# Altium footprint library Transformers.PcbLib: 13 footprints
Each footprint in its own frame and in the unit in brackets; x right, y up, seen from the top. Pads: shape width x height; smd on the part's side, far side on the other; paste and mask are expansions set on the pad; w line width, h text height; cw(c..) or ccw(c..) is an arc to the next point about the centre after c.
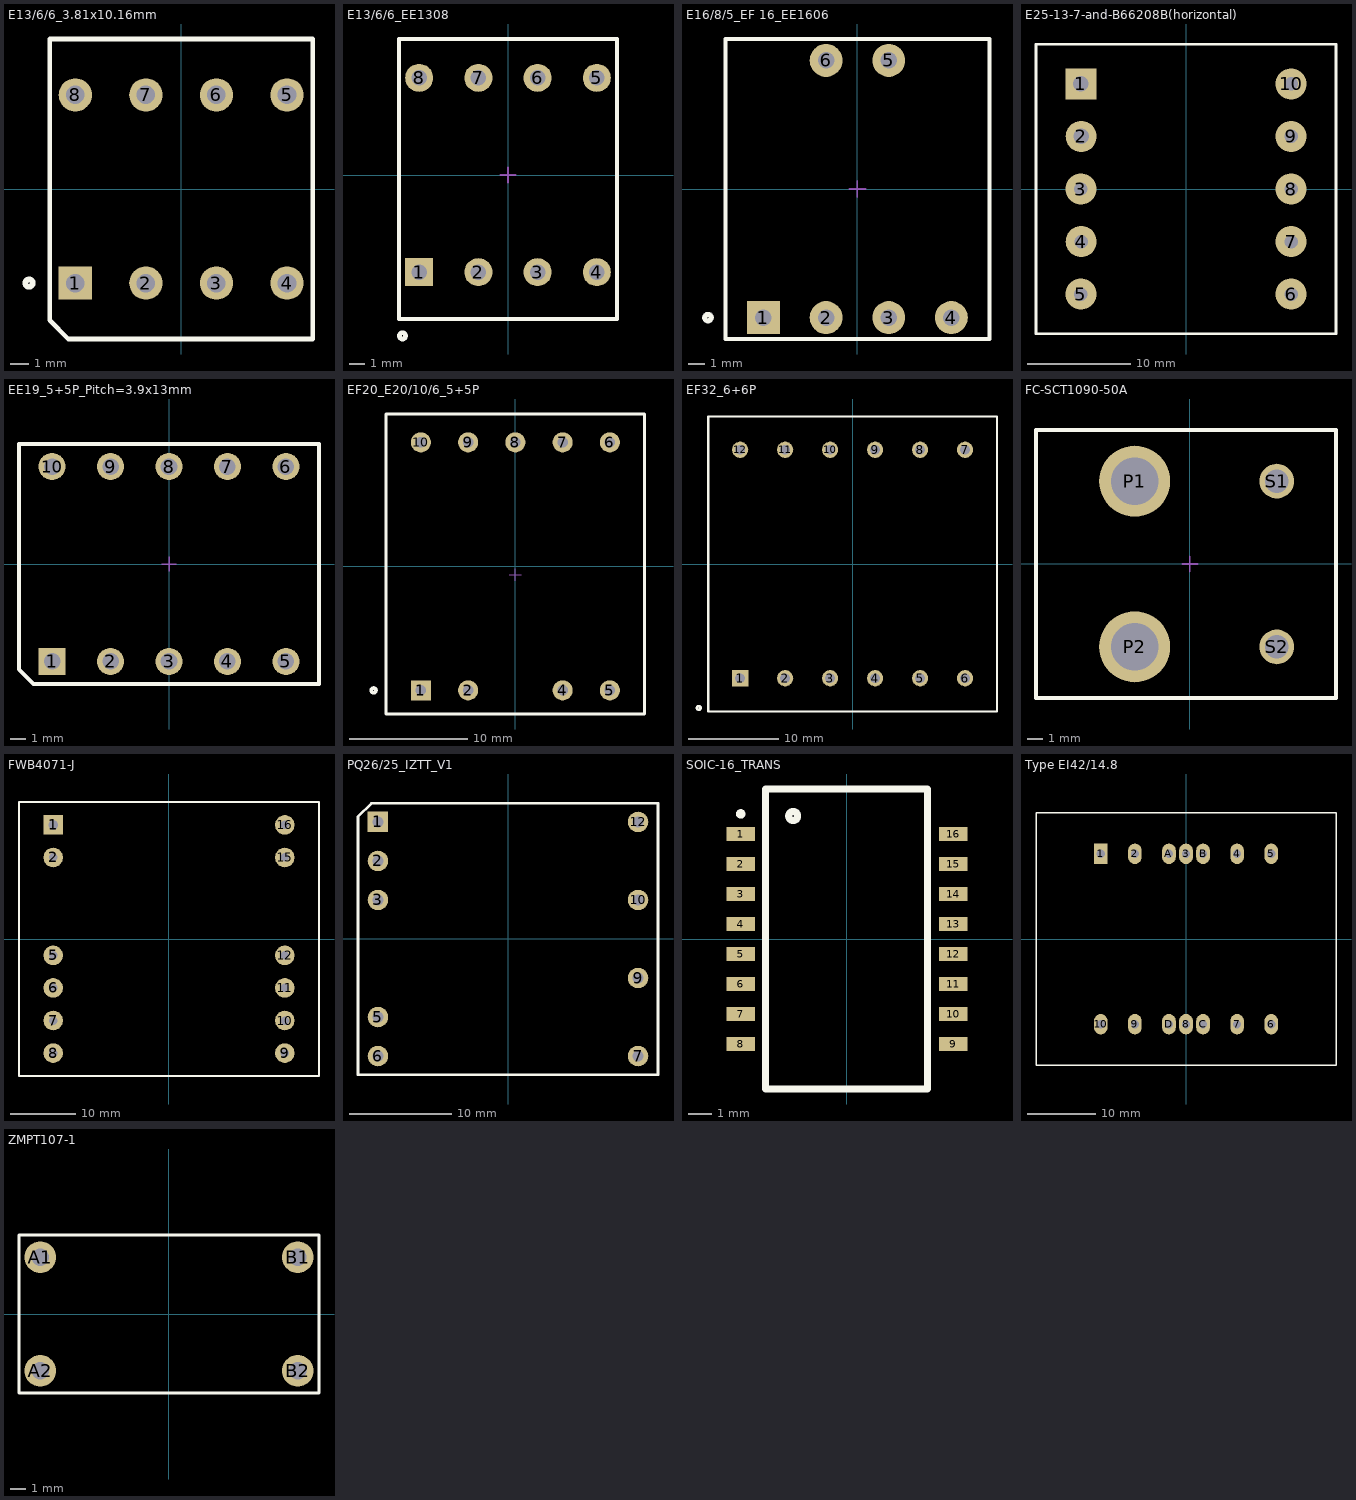
[diagram p0: the footprints below, top view; thin cyan lines are the x and y axes]

## E13/6/6_3.81x10.16mm [mm] "Трансформатор для драйвера AC-DC 5V, Coil former Horizontal = B66202B1108T001"
height 10.4
pads (8):
  rect 1.8x1.8 hole 1: 1(-5.715,-5.08)
  round 1.8 hole 1: 2(-1.905,-5.08) 3(1.905,-5.08) 4(5.715,-5.08) 5(5.715,5.08) 6(1.905,5.08) 7(-1.905,5.08) 8(-5.715,5.08)
Top Overlay:
  circle w0.3: c-8.215,-5.08 r0.2
  lines w0.25: -7.1,-7.095 -7.1,8.1 7.1,8.1 7.1,-8.1 -6.095,-8.1 -7.1,-7.095
3D body "Transformer E13x7x4.STEP": height 12.1, standoff -1.9, extent -7.1,-8.1 7.1,8.1

## E13/6/6_EE1308 [mm]
pads (8):
  rect 1.8x1.8 hole 1: 1(-5.715,-6.25)
  round 1.8 hole 1: 2(-1.905,-6.25) 3(1.905,-6.25) 4(5.715,-6.25) 5(5.715,6.25) 6(1.905,6.25) 7(-1.905,6.25) 8(-5.715,6.25)
Top Overlay:
  circle w0.3: c-6.79,-10.348 r0.2
  lines w0.25: -7,-9.27 -7,-1.65 -7,8.75 7,8.75 7,-9.27 -7,-9.27
Mechanical 15:
  lines w0.1: -0.5,0 0.5,0 ; 0,-0.5 0,0.5
3D body: height 0, standoff -2.5, extent 5.415,-6.55 6.015,-5.95
3D body: height 0, standoff -2.5, extent 1.605,-6.55 2.205,-5.95
3D body: height 0, standoff -2.5, extent -2.205,-6.55 -1.605,-5.95
3D body: height 0, standoff -2.5, extent -6.015,-6.55 -5.415,-5.95
3D body: height 0, standoff -2.5, extent 5.415,5.95 6.015,6.55
3D body: height 0, standoff -2.5, extent 1.605,5.95 2.205,6.55
3D body: height 0, standoff -2.5, extent -2.205,5.95 -1.605,6.55
3D body: height 0, standoff -2.5, extent -6.015,5.95 -5.415,6.55
3D body: height 12.5, standoff 0, extent -7.015,-7.25 6.985,5.75
3D body: height 15, standoff 0, extent -4.78,-4.5 4.72,3
3D body: height 15, standoff 0, extent -4.78,3 4.72,3.75
3D body: height 15, standoff 0, extent -4.78,-5.25 4.72,-4.5
3D body: height 6, standoff 0, extent -7,-9.27 7,8.75

## E16/8/5_EF 16_EE1606 [mm] "Трансформатор для драйвера AC-DC 5V, Coil former Horizontal"
height 11.7
pads (6):
  rect 2x2 hole 1: 1(-5.7,-7.8)
  round 2 hole 1: 2(-1.9,-7.8) 3(1.9,-7.8) 4(5.7,-7.8) 5(1.9,7.8) 6(-1.9,7.8)
Top Overlay:
  circle w0.3: c-9.066,-7.8 r0.2
  lines w0.25: -7.998,-9.1 8.002,-9.1 8.002,9.1 -7.998,9.1 -7.998,-9.1
Mechanical 15:
  lines w0.1: -0.5,0 0.5,0 ; 0,-0.5 0,0.5
3D body: height 12, standoff 0, extent -5,-5.75 5,-5
3D body: height 12, standoff 0, extent -5,5 5,5.75
3D body: height 0, standoff -2.5, extent 5.4,-8.1 6,-7.5
3D body: height 0, standoff -2.5, extent 1.6,-8.1 2.2,-7.5
3D body: height 0, standoff -2.5, extent -2.2,-8.1 -1.6,-7.5
3D body: height 0, standoff -2.5, extent -6,-8.1 -5.4,-7.5
3D body: height 0, standoff -2.5, extent 1.6,7.5 2.2,8.1
3D body: height 0, standoff -2.5, extent -2.2,7.5 -1.6,8.1
3D body: height 5, standoff 0, extent -7.998,-9.1 8.002,9.1
3D body: height 13, standoff 0, extent -5,-5 5,5
3D body: height 10, standoff 0, extent -7.998,-9.1 8.002,7.1

## E25-13-7-and-B66208B(horizontal) [mm] "Трансформатор для драйвера 18Вт (ГЗ Пульсар)"
height 34
pads (10):
  rect 3x3 hole 1.5: 1(-10.16,10.16)
  round 3 hole 1.5: 2(-10.13,5.08)
  round 3 hole 1.3: 3(-10.16,0) 4(-10.13,-5.08) 5(-10.16,-10.16) 6(10.16,-10.16) 7(10.16,-5.08) 8(10.16,0) 9(10.16,5.08) 10(10.16,10.16)
Top Overlay:
  lines w0.254: -14.5,-14 -14.5,14 14.5,14 14.5,-14 -14.5,-14
3D body "E25-13-7-and-B66208B(horizontal).STEP": height 20.5, standoff -3.5, extent -14,-13.75 14,13.75

## EE19_5+5P_Pitch=3.9x13mm [mm]
height 20.6
pads (10):
  rect 1.8x1.8 hole 1.1: 1(-7.8,-6.5)
  round 1.8 hole 1.1: 2(-3.9,-6.5) 3(0,-6.5) 4(3.9,-6.5) 5(7.8,-6.5) 6(7.8,6.5) 7(3.9,6.5) 8(0,6.5) 9(-3.9,6.5) 10(-7.8,6.5)
Top Overlay:
  lines w0.25: -10,-7.025 -10,8 10,8 10,-8 -9.025,-8 -10,-7.025
Mechanical 15:
  lines w0.1: -0.5,0 0.5,0 ; 0,-0.5 0,0.5
3D body: height 3, standoff -3, extent -0.347,-6.849 0.35,-6.151
3D body "EE19_EI-1912_without_pins_1.stp": height 22.4, standoff 0, extent -10,-8 10,8
3D body: height 3, standoff -3, extent -8.147,-6.849 -7.45,-6.151
3D body: height 3, standoff -3, extent -4.247,-6.849 -3.55,-6.151
3D body: height 3, standoff -3, extent 3.553,-6.849 4.25,-6.151
3D body: height 3, standoff -3, extent 7.453,-6.849 8.15,-6.151
3D body: height 3, standoff -3, extent 7.453,6.151 8.15,6.849
3D body: height 3, standoff -3, extent 3.553,6.151 4.25,6.849
3D body: height 3, standoff -3, extent -0.347,6.151 0.35,6.849
3D body: height 3, standoff -3, extent -4.247,6.151 -3.55,6.849
3D body: height 3, standoff -3, extent -8.147,6.151 -7.45,6.849

## EF20_E20/10/6_5+5P [mm]
pads (9):
  rect 1.7x1.7 hole 0.9: 1(-8,-10.5)
  round 1.7 hole 0.9: 2(-4,-10.5) 4(4,-10.5) 5(8,-10.5) 6(8,10.5) 7(4,10.5) 8(0,10.5) 9(-4,10.5) 10(-8,10.5)
Top Overlay:
  circle w0.3: c-12,-10.5 r0.2
  lines w0.25: -10.95,-12.5 -10.95,12.9 10.95,12.9 10.95,-12.5 -10.95,-12.5
Mechanical 15:
  lines w0.1: -0.5,-0.7 0.5,-0.7 ; 0,-1.2 0,-0.2
3D body: height 16.8, standoff 0, extent -6.95,2.8 6.95,3.6
3D body: height 16.8, standoff 0, extent -6.95,-10.2 6.95,-9.4
3D body: height 17, standoff 1, extent -6,-9.4 6,2.8
3D body: height 12.7, standoff 6.8, extent -10,-13.5 10,6.9
3D body: height 6.8, standoff 0, extent -10.95,-12.5 10.95,12.9
3D body: height 0, standoff -2.5, extent -8.298,-10.799 -7.7,-10.201
3D body: height 0, standoff -2.5, extent -4.298,-10.799 -3.7,-10.201
3D body: height 0, standoff -2.5, extent 3.702,-10.799 4.3,-10.201
3D body: height 0, standoff -2.5, extent 7.702,-10.799 8.3,-10.201
3D body: height 0, standoff -2.5, extent 7.702,10.201 8.3,10.799
3D body: height 0, standoff -2.5, extent 3.702,10.201 4.3,10.799
3D body: height 0, standoff -2.5, extent -0.298,10.201 0.3,10.799
3D body: height 0, standoff -2.5, extent -4.298,10.201 -3.7,10.799
3D body: height 0, standoff -2.5, extent -8.298,10.201 -7.7,10.799

## EF32_6+6P [mm]
pads (12):
  rect 1.8x1.8 hole 1.1: 1(-12.5,-12.7)
  round 1.8 hole 1.1: 2(-7.5,-12.7) 3(-2.5,-12.7) 4(2.5,-12.7) 5(7.5,-12.7) 6(12.5,-12.7) 7(12.5,12.7) 8(7.5,12.7) 9(2.5,12.7) 10(-2.5,12.7) 11(-7.5,12.7) 12(-12.5,12.7)
Top Overlay:
  circle w0.3: c-17.1,-16 r0.2
  lines w0.25: -16.05,-16.4 -16.05,16.4 16.05,16.4 16.05,-16.4 -16.05,-16.4
3D body: height 23.4, standoff 0, extent -11.3,-11.35 11.2,-10.2
3D body: height 23.4, standoff 0, extent -11.2,10.2 11.3,11.35
3D body: height 0, standoff -3, extent 12.102,-13.099 12.899,-12.301
3D body: height 0, standoff -3, extent 12.102,12.301 12.899,13.099
3D body: height 0, standoff -3, extent 7.102,12.301 7.899,13.099
3D body: height 0, standoff -3, extent 12.102,12.301 12.899,13.099
3D body: height 22.4, standoff 1, extent -10.2,-10.2 10.2,10.2
3D body: height 17, standoff 7.5, extent -16,-16.4 16,16.4
3D body: height 0, standoff -3, extent -12.898,-13.099 -12.101,-12.301
3D body: height 0, standoff -3, extent -7.898,-13.099 -7.101,-12.301
3D body: height 0, standoff -3, extent -2.898,-13.099 -2.101,-12.301
3D body: height 0, standoff -3, extent 2.102,-13.099 2.899,-12.301
3D body: height 0, standoff -3, extent 7.102,-13.099 7.899,-12.301
3D body: height 0, standoff -3, extent -12.898,12.301 -12.101,13.099
3D body: height 0, standoff -3, extent 7.102,12.301 7.899,13.099
3D body: height 0, standoff -3, extent -7.898,12.301 -7.101,13.099
3D body: height 0, standoff -3, extent -2.898,12.301 -2.101,13.099
3D body: height 0, standoff -3, extent 2.102,12.301 2.899,13.099
3D body: height 7.5, standoff 0, extent -16.05,10.2 16.05,14.6
3D body: height 7.5, standoff 0, extent -16.05,-14.6 16.05,-10.2

## FC-SCT1090-50A [mm]
height 23
pads (4):
  round 4.5 hole 3: P1(-3.5,5.25) P2(-3.5,-5.25)
  round 2.2 hole 1.5: S1(5.5,5.25) S2(5.5,-5.25)
Top Overlay:
  lines w0.25: -9.75,-8.5 9.25,-8.5 9.25,8.5 -9.75,8.5 -9.75,-8.5
Mechanical 15:
  lines w0.1: -0.5,0 0.5,0 ; 0,-0.5 0,0.5
3D body "Designator24.stp": height 22, standoff -3, extent -9.75,-8.5 8.75,8.5

## FWB4071-J [mm] "Трансформатор для драйвера 75Вт"
height 34
pads (12):
  rect 3x3 hole 1.5: 1(-17.75,17.5)
  round 3 hole 1.3: 2(-17.75,12.5) 5(-17.75,-2.5) 6(-17.75,-7.5) 7(-17.75,-12.5) 8(-17.75,-17.5) 9(17.75,-17.5) 10(17.75,-12.5) 11(17.75,-7.5) 12(17.75,-2.5) 15(17.75,12.5) 16(17.75,17.5)
Top Overlay:
  lines w0.254: -23,-21 -23,21 23,21 23,-21 -23,-21
3D body "FWPTER40H421K.STEP": height 32.94, standoff -3.5, extent -23.025,-21.002 22.975,21.003

## PQ26/25_IZTT_V1 [mm] "Transformers 88...264V - 12/24V 72W"
height 29
pads (9):
  rect 2x2 hole 1.1: 1(-12.7,11.43)
  round 2 hole 1.1: 2(-12.7,7.62) 3(-12.7,3.81) 5(-12.7,-7.62) 6(-12.7,-11.43) 7(12.7,-11.43) 9(12.7,-3.81) 10(12.7,3.81) 12(12.7,11.43)
Top Overlay:
  lines w0.254: -14.65,-13.25 -14.65,11.95 -13.35,13.25 14.65,13.25 14.65,-13.25 -14.65,-13.25
3D body "User Library-TRANS PQ2625_IZTT_V1.stp": height 29, standoff -3.8, extent -14.06,-13.5 14.06,13.5

## SOIC-16_TRANS [mm]
pads (16):
  rect 1.2x0.6 smd: 1(-4.5,4.445) 2(-4.5,3.175) 3(-4.5,1.905) 4(-4.5,0.635) 5(-4.5,-0.635) 6(-4.5,-1.905) 7(-4.5,-3.175) 8(-4.5,-4.445) 9(4.5,-4.445) 10(4.5,-3.175) 11(4.5,-1.905) 12(4.5,-0.635) 13(4.5,0.635) 14(4.5,1.905) 15(4.5,3.175) 16(4.5,4.445)
Top Overlay:
  circle w0.3: c-2.277,5.207 r0.191
  circle w0.2: c-4.5,5.295 r0.1
  lines w0.3: -3.45,-6.35 -3.45,6.35 3.4,6.35 3.4,-6.35 -3.45,-6.35
3D body "Ethernet trans SOIC-16.STEP": height 5.55, standoff 0, extent -4.433,-6.405 4.45,6.395

## Type EI42/14.8 [mm] "Transformer type EI42/14.8"
height 31.5
pads (14):
  rect 2x3 hole 1.2 unplated: 1(-12.5,12.5)
  oval 2x3 hole 1.2 unplated: 2(-7.5,12.5) 3(0,12.5) 4(7.5,12.5) 5(12.5,12.5) 6(12.5,-12.5) 7(7.5,-12.5) 8(0,-12.5) 9(-7.5,-12.5) 10(-12.5,-12.5) A(-2.5,12.5) B(2.5,12.5) C(2.5,-12.5) D(-2.5,-12.5)
Top Overlay:
  lines w0.2: -22,-18.5 -22,18.5 22,18.5 22,-18.5 -22,-18.5
3D body: height 28, standoff 0.1, extent -22,-18.5 22,18.5
3D body: height 32, standoff 28, extent -15.7,-13.5 15.8,13.6

## ZMPT107-1 [mm]
height 18.3
pads (4):
  round 2 hole 1.1: A1(-8.15,3.6) A2(-8.15,-3.6) B1(8.15,3.6) B2(8.15,-3.6)
Top Overlay:
  lines w0.2: -9.5,-5 9.5,-5 9.5,5 -9.5,5 -9.5,-5
3D body: height 0, standoff -3, extent 7.852,-3.899 8.45,-3.3
3D body: height 0, standoff -3, extent 7.85,3.301 8.448,3.899
3D body: height 0, standoff -3, extent -8.447,3.301 -7.85,3.9
3D body: height 0, standoff -3, extent -8.447,-3.899 -7.85,-3.3
3D body: height 18.2, standoff 0, extent -9.5,-5 9.5,5